# EAGLE library part LPC11U24FHI33 (library nxp_60_1_1)
32-bit ARM Cortex-M0 microcontroller; up to 32 kB flash; up to 10 kB SRAM and 4 kB EEPROM; USB device; USART The LPC11U2x are an ARM Cortex-M0 based, low-cost 32-bit MCU family, designed for 8/16-bit microcontroller applications, offering performance, low power, simple instruction set and memory addressing together with reduced code size compared to existing 8/16-bit architectures. The LPC11U2x operate at CPU frequencies of up to 50 MHz. Equipped with a highly flexible and configurable Full-Speed USB 2.0 device controller, the LPC11U2x brings unparalleled design flexibility and seamless integration to today’s demanding connectivity solutions. The peripheral complement of the LPC11U2x includes up to 32 kB of flash memory, up to 10 kB of SRAM data memory and 4 kB EEPROM, one Fast-mode Plus I 2 C-bus interface, one RS-485/EIA-485 USART with support for synchronous mode and smart card interface, two SSP interfaces, four general-purpose counter/timers, a 10-bit ADC (Analog-to-Digital Converter), and up to 54 general-purpose I/O pins. AAL Eindhoven MK
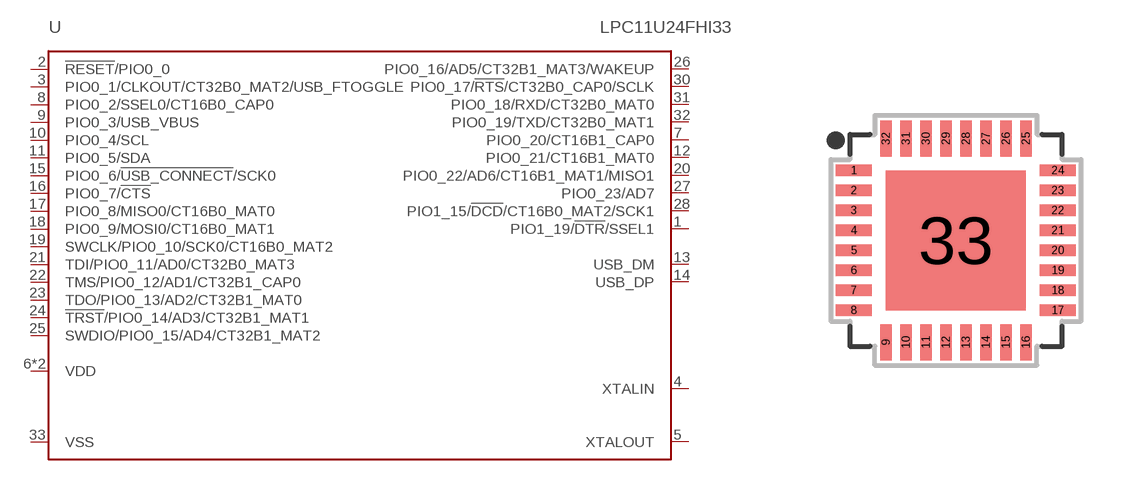
[diagram p186: symbol with the pads of SOT617-3; footprint SOT617-3]

Designator prefix U

## LPC11U24FHI33/301 (EEPROM: 2kB; FLASH: 32kB; GPIO: 26; SRAM: 6kB; USB_SRAM: 2kB)  [SOT617-3]
1  PIO1_19/!DTR!/SSEL1
2  !RESET!/PIO0_0
3  PIO0_1/CLKOUT/CT32B0_MAT2/USB_FTOGGLE
4  XTALIN  in
5  XTALOUT  out
6  VDD  pwr
7  PIO0_20/CT16B1_CAP0
8  PIO0_2/SSEL0/CT16B0_CAP0
9  PIO0_3/USB_VBUS
10  PIO0_4/SCL
11  PIO0_5/SDA
12  PIO0_21/CT16B1_MAT0
13  USB_DM
14  USB_DP
15  PIO0_6/!USB_CONNECT!/SCK0
16  PIO0_7/!CTS!
17  PIO0_8/MISO0/CT16B0_MAT0
18  PIO0_9/MOSI0/CT16B0_MAT1
19  SWCLK/PIO0_10/SCK0/CT16B0_MAT2
20  PIO0_22/AD6/CT16B1_MAT1/MISO1
21  TDI/PIO0_11/AD0/CT32B0_MAT3
22  TMS/PIO0_12/AD1/CT32B1_CAP0
23  TDO/PIO0_13/AD2/CT32B1_MAT0
24  !TRST!/PIO0_14/AD3/CT32B1_MAT1
25  SWDIO/PIO0_15/AD4/CT32B1_MAT2
26  PIO0_16/AD5/CT32B1_MAT3/WAKEUP
27  PIO0_23/AD7
28  PIO1_15/!DCD!/CT16B0_MAT2/SCK1
29  VDD  pwr
30  PIO0_17/!RTS!/CT32B0_CAP0/SCLK
31  PIO0_18/RXD/CT32B0_MAT0
32  PIO0_19/TXD/CT32B0_MAT1
33  VSS  pwr

## Footprint SOT617-3 (pad centres in mm)
SOT617-3 HVQFN32: plastic thermal enhanced very thin quad flat package; no leads; 32 terminals; body 5 x 5 x 0.85 mm JEDEC: MO-220 IEC: -- JEITA: --
smd 0.9 x 0.29: 1 -2.55,1.75; 2 -2.55,1.25; 3 -2.55,0.75; 4 -2.55,0.25; 5 -2.55,-0.25; 6 -2.55,-0.75; 7 -2.55,-1.25; 8 -2.55,-1.75; 17 2.55,-1.75; 18 2.55,-1.25; 19 2.55,-0.75; 20 2.55,-0.25; 21 2.55,0.25; 22 2.55,0.75; 23 2.55,1.25; 24 2.55,1.75
smd 0.29 x 0.9: 9 -1.75,-2.55; 10 -1.25,-2.55; 11 -0.75,-2.55; 12 -0.25,-2.55; 13 0.25,-2.55; 14 0.75,-2.55; 15 1.25,-2.55; 16 1.75,-2.55; 25 1.75,2.55; 26 1.25,2.55; 27 0.75,2.55; 28 0.25,2.55; 29 -0.25,2.55; 30 -0.75,2.55; 31 -1.25,2.55; 32 -1.75,2.55
smd 3.5 x 3.5: 33 0,0